# Altium footprint library SnapEDApcb.PcbLib: 1 footprints
Each footprint in its own frame and in the unit in brackets; x right, y up, seen from the top. Pads: shape width x height; smd on the part's side, far side on the other; paste and mask are expansions set on the pad; w line width, h text height; cw(c..) or ccw(c..) is an arc to the next point about the centre after c.
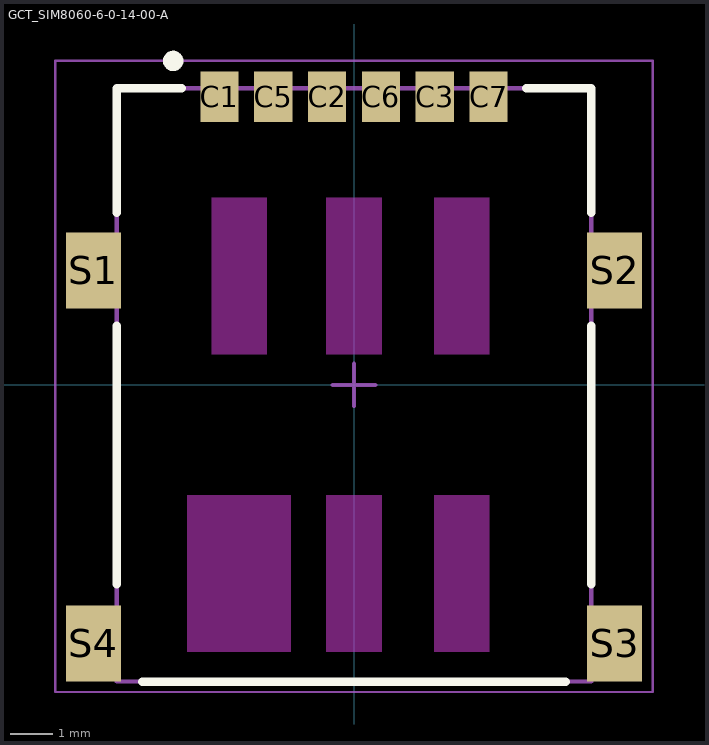
[diagram p0: the footprint, top view; thin cyan lines are the x and y axes]

## GCT_SIM8060-6-0-14-00-A [mm]
pads (10):
  rect 0.9x1.2 smd: C1(-3.175,6.8) C2(-0.635,6.8) C3(1.905,6.8) C5(-1.905,6.8) C6(0.635,6.8) C7(3.175,6.8)
  rect 1.3x1.8 smd: S1(-6.15,2.7) S2(6.15,2.7) S3(6.15,-6.1) S4(-6.15,-6.1)
Top Overlay:
  circle w0.24: c-4.267,7.645 r0.12
  lines w0.2: -5.6,-4.699 -5.6,1.397 ; -5.6,4.064 -5.6,7 -4.064,7 ; -5,-7 5,-7 ; 4.064,7 5.6,7 5.6,4.064 ; 5.6,-4.699 5.6,1.397
Keep-Out Layer:
  region: -2.06,0.72 -3.36,0.72 -3.36,4.42 -2.06,4.42
  region: 0.65,0.72 -0.65,0.72 -0.65,4.42 0.65,4.42
  region: 3.19,0.72 1.89,0.72 1.89,4.42 3.19,4.42
  region: -1.49,-6.3 -3.93,-6.3 -3.93,-2.6 -1.49,-2.6
  region: 0.65,-6.3 -0.65,-6.3 -0.65,-2.6 0.65,-2.6
  region: 3.19,-6.3 1.89,-6.3 1.89,-2.6 3.19,-2.6
  region: -2.06,0.72 -3.36,0.72 -3.36,4.42 -2.06,4.42
  region: 0.65,0.72 -0.65,0.72 -0.65,4.42 0.65,4.42
  region: 3.19,0.72 1.89,0.72 1.89,4.42 3.19,4.42
  region: -1.49,-6.3 -3.93,-6.3 -3.93,-2.6 -1.49,-2.6
  region: 0.65,-6.3 -0.65,-6.3 -0.65,-2.6 0.65,-2.6
  region: 3.19,-6.3 1.89,-6.3 1.89,-2.6 3.19,-2.6
Mechanical 13:
  lines w0.1: -5.6,-7 5.6,-7 5.6,7 -5.6,7 -5.6,-7
Mechanical 15:
  lines w0.05: -7.05,-7.25 7.05,-7.25 7.05,7.65 -7.05,7.65 -7.05,-7.25
  lines w0.1: -0.5,0 0.5,0 ; 0,-0.5 0,0.5
3D body "sim8060-6-0-14-00-a.stp": height 1.4, standoff -0.03, extent -6.2,-6.985 6.2,7.115